# Altium schematic symbol library Logo_Icon.SchLib: 1 symbol
Pins are listed as number, name and electrical type; pins without a type are passive.

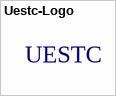
[diagram p0: symbol Uestc-Logo]

## Uestc-Logo
designator LOGO  (value not drawn)
footprint uestc_logo_1.6*1.6 (logo  uestc size:1.6cm*1.6cm)
text: UESTC